# Altium footprint library TE-84952-7.PcbLib: 1 footprints
Each footprint in its own frame and in the unit in brackets; x right, y up, seen from the top. Pads: shape width x height; smd on the part's side, far side on the other; paste and mask are expansions set on the pad; w line width, h text height; cw(c..) or ccw(c..) is an arc to the next point about the centre after c.
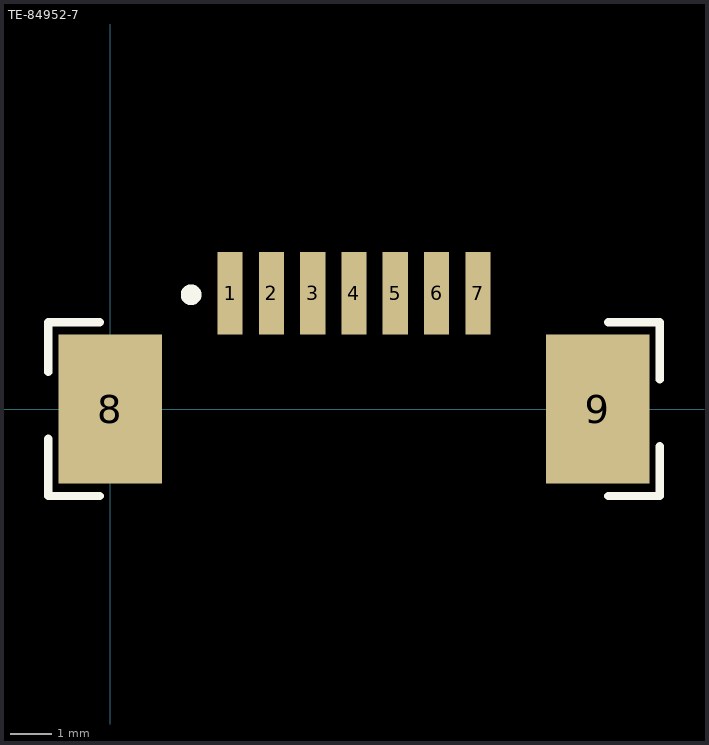
[diagram p0: the footprint, top view; thin cyan lines are the x and y axes]

## TE-84952-7 [mm]
pads (9):
  rect 0.61x2 smd: 1(2.9,2.8) 2(3.9,2.8) 3(4.9,2.8) 4(5.9,2.8) 5(6.9,2.8) 6(7.9,2.8) 7(8.9,2.8)
  rect 2.5x3.6 smd: 8(0,0) 9(11.8,0)
Top Overlay:
  circle w0.25: c1.958,2.769 r0.125
  lines w0.2: -1.5,-0.719 -1.5,-2.1 -0.25,-2.1 ; -1.5,0.9 -1.5,2.1 -0.25,2.1 ; 12.05,-2.1 13.3,-2.1 13.3,-0.9 ; 12.05,2.1 13.3,2.1 13.3,0.719
3D body: height 2.57, standoff 0.01, extent -1.56,-3.644 13.36,2.896